# EAGLE library part TPS259474LRPW (library LM555-SHAYAN-NOORANI)
TPS259474x E-Fuse Datasheet <https://www.ti.com/lit/ds/symlink/tps25947.pdf?ts=1611163131190&ref_url=https%253A%252F%252Fwww.google.com%252F> Note: See page 32 for application schematic.
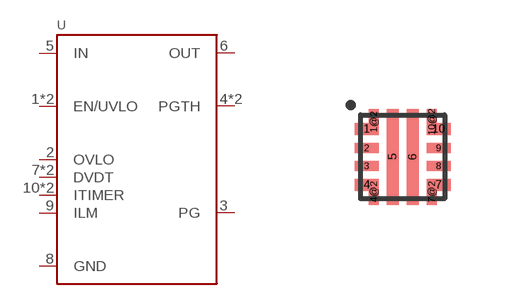
[diagram p15: symbol with the pads of VQFN-HR-10; footprint VQFN-HR-10]

Designator prefix U

## TPS259474LRPW (MPN: TPS259474LRPW)  [VQFN-HR-10]
1  EN/UVLO  in
1@2  EN/UVLO  in
2  OVLO  in
3  PG  oc
4  PGTH  in
4@2  PGTH  in
5  IN  in
6  OUT  out
7  DVDT  out
7@2  DVDT  out
8  GND  pwr
9  ILM  out
10  ITIMER  out
10@2  ITIMER  out

## Footprint VQFN-HR-10 (pad centres in mm)
HotRod VQFN 10 Datasheet <https://www.ti.com/lit/ds/symlink/tps25947.pdf?ts=1611182572801&ref_url=https%253A%252F%252Fwww.ti.com%252Fproduct%252FTPS25947> Note: Based off of page 57 and 58.
smd 0.6 x 0.3: 1 -0.9,0.7; 4 -0.9,-0.7; 7 0.9,-0.7; 10 0.9,0.7
smd 0.25 x 0.65: 1@2 -0.725,0.875; 4@2 -0.725,-0.875; 7@2 0.725,-0.875; 10@2 0.725,0.875
smd 0.6 x 0.25: 2 -0.9,0.225; 3 -0.9,-0.225; 8 0.9,-0.225; 9 0.9,0.225
smd 0.3 x 2.4: 5 -0.25,0; 6 0.25,0